# Altium schematic symbol library LED.SchLib: 1 symbol
Pins are listed as number, name and electrical type; pins without a type are passive.

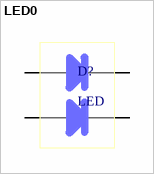
[diagram p0: symbol LED0]

## LED0
designator D?, comment LED
发光二极管
footprint LED0 (发光二极管)
pins: 1, 2, 3, 4